# EAGLE library part AD780 (library analog-devices)
High Precision Reference 2.5V/3.0V Source: http://www.analog.com/UploadedFiles/Data_Sheets/AD780.pdf
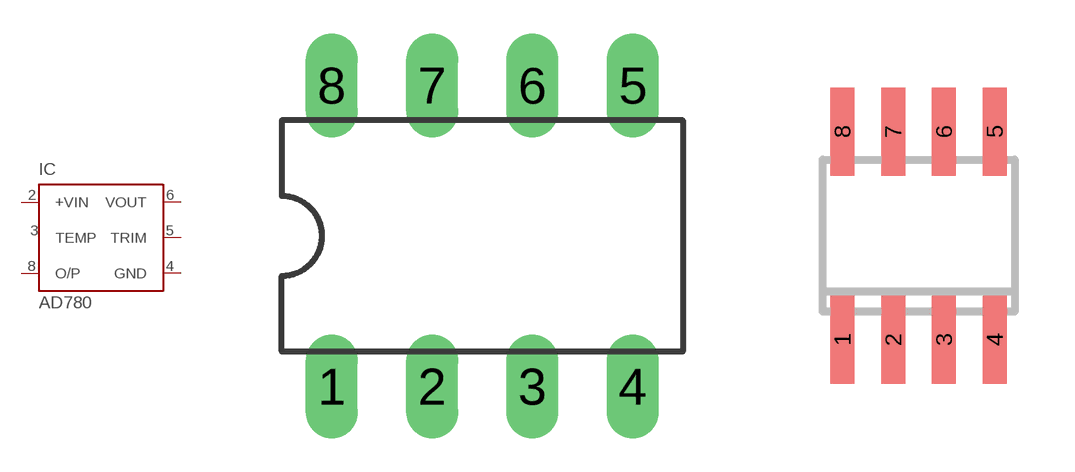
[diagram p16: symbol with the pads of DIL08; footprints DIL08, SO8]

Designator prefix IC

## AD780N (MF: ALTERA CORPORATION; MPN: AD780ANZ; OC_FARNELL: 9605550; OC_NEWARK: 59K5478)  [DIL08]
2  +VIN  in
3  TEMP  in
4  GND  pwr
5  TRIM  in
6  VOUT  in
8  O/P  pas

## AD780R (MPN: AD780BRZ-REEL; OC_FARNELL: 1464655; OC_NEWARK: 12M8938)  [SO8]
Pads as for DIL08

## Footprint DIL08 (pad centres in mm)
Dual In Line Package
drill 0.813 long: 1 -3.81,-3.81; 2 -1.27,-3.81; 3 1.27,-3.81; 4 3.81,-3.81; 5 3.81,3.81; 6 1.27,3.81; 7 -1.27,3.81; 8 -3.81,3.81

## Footprint SO8 (pad centres in mm)
SMALL OUTLINE INTEGRATED CIRCUIT SOP-8L Source: http://www.diodes.com/datasheets/ds31262.pdf
smd 0.6 x 2.2: 1 -1.905,-2.6; 2 -0.635,-2.6; 3 0.635,-2.6; 4 1.905,-2.6; 5 1.905,2.6; 6 0.635,2.6; 7 -0.635,2.6; 8 -1.905,2.6